# Altium schematic symbol library MLX90614ESFACA.SchLib: 1 symbol
Pins are listed as number, name and electrical type; pins without a type are passive.

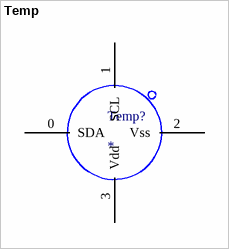
[diagram p0: symbol Temp]

## Temp
designator Temp?
footprint MLX90614
pins: 0 SDA, 1 SCL, 2 Vss (power), 3 Vdd (power)